# Altium integrated library WRB2403CS_DCDC_CONV.IntLib: 1 symbol
Pins are listed as number, name and electrical type; pins without a type are passive.

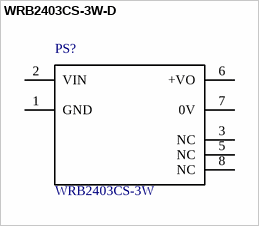
[diagram p0: symbol WRB2403CS-3W-D]

## WRB2403CS-3W-D
designator PS?, comment WRB2403CS-3W
Wide Input Isolated and regulated single output DC-DC Converter Input 18-36VDC Ouput 3.3V @ 909mA; Mantech PN: 35M4723-X; SnapEDA_Link: https://www.snapeda.com/parts/UWF1215S-1WR3/MORNSUN/view-part/?ref=snap; Check_prices: https://www.snapeda.com/parts/UWF1215S-1WR3/MORNSUN/view-part/?ref=eda
footprint WRB2403CS
pins: 1 GND (power), 2 VIN, 3 NC, 5 NC, 6 +VO, 7 0V, 8 NC